# Altium schematic symbol library 2434804-1.SchLib: 1 symbol
Pins are listed as number, name and electrical type; pins without a type are passive.

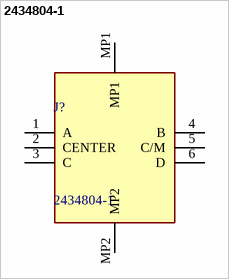
[diagram p0: symbol 2434804-1]

## 2434804-1
designator J?
Tactile Switches, Extended, Top Actuator Style, NO, Stainless Steel, Silver, Low Profile, 50 mA, 12 VDC; Manufacturer_Name: TE Connectivity; Geometry.Height: 5.7mm; Manufacturer_Part_Number: 2434804-1; Mouser Part Number: 655-2434804-1; Mouser Price/Stock: https://www.mouser.co.uk/ProductDetail/TE-Connectivity-Alcoswitch/2434804-1?qs=amGC7iS6iy%2Ff1nJtCucIMQ%3D%3D; Arrow Part Number: *; Arrow Price/Stock: *; Datasheet Link: https://www.te.com/commerce/DocumentDelivery/DDEController?Action=showdoc&DocId=Customer+Drawing%7F2434804%7FA%7Fpdf%7FEnglish%7FENG_CD_2434804_A.pdf%7F2434804-1
footprint 24348041
pins: 1 A, 2 CENTER, 3 C, 4 B, 5 C/M, 6 D, MP1, MP2